# EAGLE library part 691401710008 (library Wuerth_Elektronik_eiCan_Terminal_Blocks_v2.0)
WR-TBL Serie 401 - 5.0mm Screwless Horizontal Entry - 2 mm2 Wires, 8 Pins
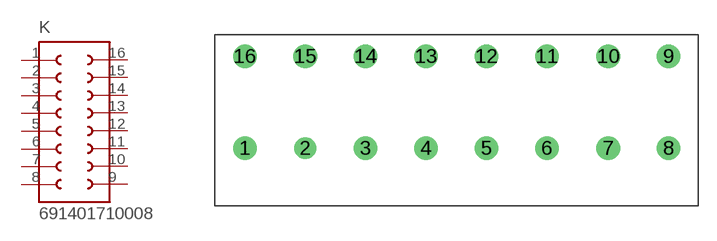
[diagram p237: symbol with the pads of 691401710008; footprint 691401710008]

Designator prefix K

## 691401710008  [691401710008]
1  1  pas
2  2  pas
3  3  pas
4  4  pas
5  5  pas
6  6  pas
7  7  pas
8  8  pas
9  9  pas
10  10  pas
11  11  pas
12  12  pas
13  13  pas
14  14  pas
15  15  pas
16  16  pas

## Footprint 691401710008 (pad centres in mm)
WR-TBL Serie 401 - 5.0mm Screwless Horizontal Entry - 2 mm2 Wires, 8 Pins
drill 1.3 round: 1 -19.92,-3.81; 3 -9.92,-3.81; 4 -4.92,-3.81; 5 0.08,-3.81; 6 5.08,-3.81; 7 10.16,-3.81; 8 15.16,-3.81; 9 15.16,3.81; 10 10.16,3.81; 11 5.08,3.81; 12 0.08,3.81; 13 -4.92,3.81; 14 -9.92,3.81; 15 -14.92,3.81; 16 -19.92,3.81
drill 1.2 round: 2 -14.92,-3.81